# Altium schematic symbol library 原理图库.SchLib: 27 symbols
Pins are listed as number, name and electrical type; pins without a type are passive.

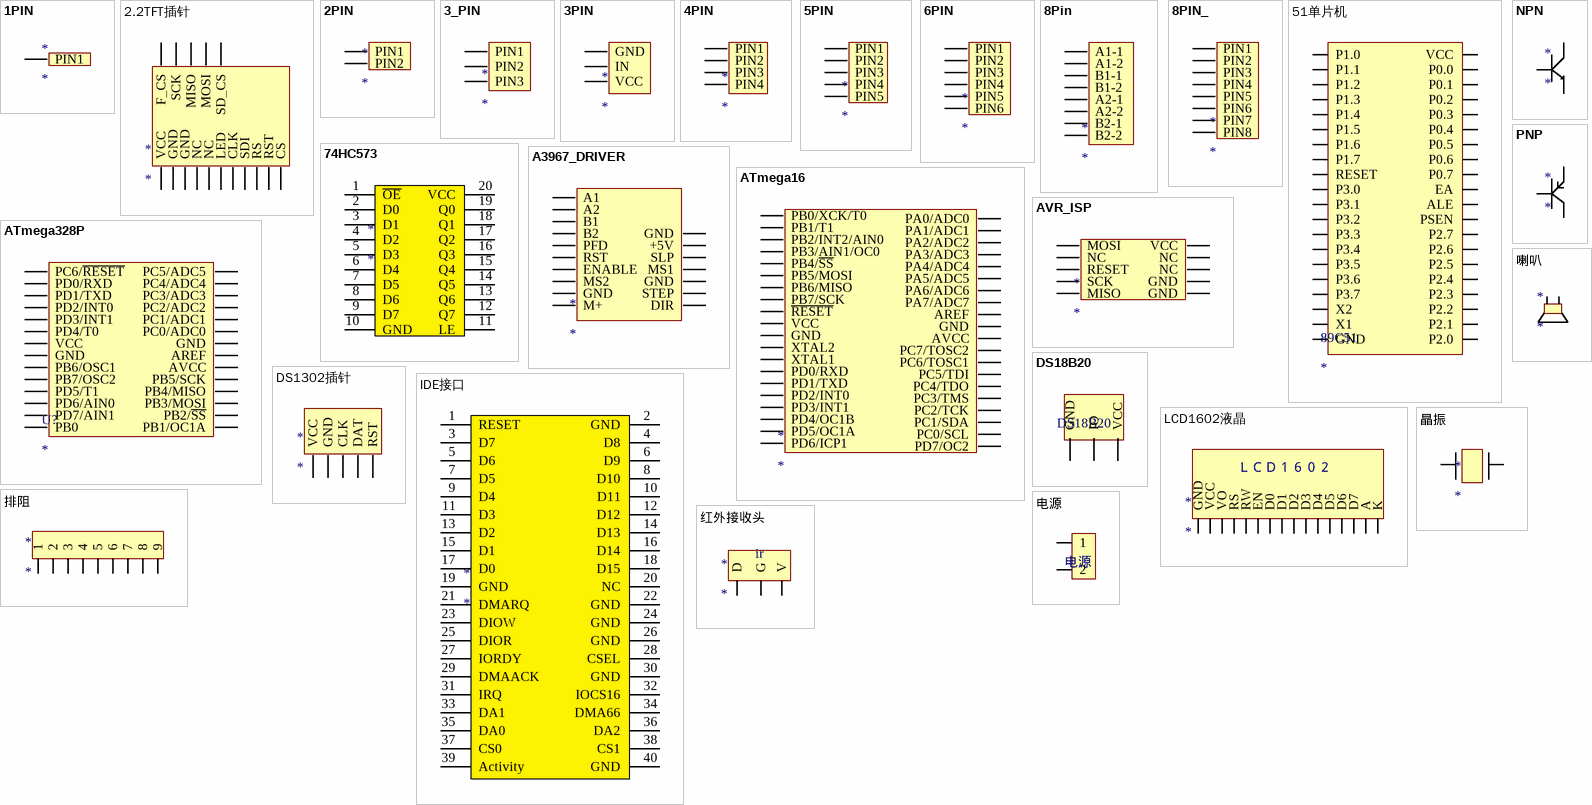
[diagram p0: symbols 1PIN to 红外接收头]

## 1PIN
designator *
pins: 1 PIN1

## 2.2TFT插针
designator *
pins: 1 VCC, 2 GND, 3 GND, 4 NC, 5 NC, 6 LED, 7 CLK, 8 SDI, 9 RS, 10 RST, 11 CS, 12 F_CS, 13 SCK, 14 MISO, 15 MOSI, 16 SD_CS

## 2PIN
designator *
pins: 1 PIN1, 2 PIN2

## 3_PIN
designator *
pins: 1 PIN1, 2 PIN2, 3 PIN3

## 3PIN
designator *
pins: 1 GND, 2 IN, 3 VCC

## 4PIN
designator *
pins: 1 PIN1, 2 PIN2, 3 PIN3, 4 PIN4

## 5PIN
designator *
pins: 1 PIN1, 2 PIN2, 3 PIN3, 4 PIN4, 5 PIN5

## 6PIN
designator *
pins: 1 PIN1, 2 PIN2, 3 PIN3, 4 PIN4, 5 PIN5, 6 PIN6

## 8Pin
designator *
pins: 1 A1-1, 2 A1-2, 3 B1-1, 4 B1-2, 5 A2-1, 6 A2-2, 7 B2-1, 8 B2-2

## 8PIN_
designator *
pins: 1 PIN1, 2 PIN2, 3 PIN3, 4 PIN4, 5 PIN5, 6 PIN6, 7 PIN7, 8 PIN8

## 51单片机
designator 89C51
pins: 1 P1.0, 2 P1.1, 3 P1.2, 4 P1.3, 5 P1.4, 6 P1.5, 7 P1.6, 8 P1.7, 9 RESET, 10 P3.0, 11 P3.1, 12 P3.2, 13 P3.3, 14 P3.4, 15 P3.5, 16 P3.6, 17 P3.7, 18 X2, 19 X1, 20 GND, 21 P2.0, 22 P2.1, 23 P2.2, 24 P2.3, 25 P2.4, 26 P2.5, 27 P2.6, 28 P2.7, 29 PSEN, 30 ALE, 31 EA, 32 P0.7, 33 P0.6, 34 P0.5, 35 P0.4, 36 P0.3, 37 P0.2, 38 P0.1, 39 P0.0, 40 VCC

## 74HC573
designator *
pins: 1 ~{OE}, 2 D0, 3 D1, 4 D2, 5 D3, 6 D4, 7 D5, 8 D6, 9 D7, 10 GND, 11 LE, 12 Q7, 13 Q6, 14 Q5, 15 Q4, 16 Q3, 17 Q2, 18 Q1, 19 Q0, 20 VCC

## A3967_DRIVER
designator *
pins: 1 A1, 2 A2, 3 B1, 4 B2, 5 PFD, 6 RST, 7 ENABLE, 8 MS2, 9 GND, 10 M+, 11 DIR, 12 STEP, 13 GND, 14 MS1, 15 SLP, 16 +5V, 17 GND

## ATmega16
designator *
pins: 1 PB0/XCK/T0, 2 PB1/T1, 3 PB2/INT2/AIN0, 4 PB3/AIN1/OC0, 5 PB4/~{SS}, 6 PB5/MOSI, 7 PB6/MISO, 8 PB7/SCK, 9 ~{RESET}, 10 VCC, 11 GND, 12 XTAL2, 13 XTAL1, 14 PD0/RXD, 15 PD1/TXD, 16 PD2/INT0, 17 PD3/INT1, 18 PD4/OC1B, 19 PD5/OC1A, 20 PD6/ICP1, 21 PD7/OC2, 22 PC0/SCL, 23 PC1/SDA, 24 PC2/TCK, 25 PC3/TMS, 26 PC4/TDO, 27 PC5/TDI, 28 PC6/TOSC1, 29 PC7/TOSC2, 30 AVCC, 31 GND, 32 AREF, 33 PA7/ADC7, 34 PA6/ADC6, 35 PA5/ADC5, 36 PA4/ADC4, 37 PA3/ADC3, 38 PA2/ADC2, 39 PA1/ADC1, 40 PA0/ADC0

## ATmega328P
designator U?
pins: 1 PC6/~{RESET}, 2 PD0/RXD, 3 PD1/TXD, 4 PD2/INT0, 5 PD3/INT1, 6 PD4/T0, 7 VCC, 8 GND, 9 PB6/OSC1, 10 PB7/OSC2, 11 PD5/T1, 12 PD6/AIN0, 13 PD7/AIN1, 14 PB0, 15 PB1/OC1A, 16 PB2/~{SS}, 17 PB3/MOSI, 18 PB4/MISO, 19 PB5/SCK, 20 AVCC, 21 AREF, 22 GND, 23 PC0/ADC0, 24 PC1/ADC1, 25 PC2/ADC2, 26 PC3/ADC3, 27 PC4/ADC4, 28 PC5/ADC5

## AVR_ISP
designator *
pins: 1 MOSI, 2 VCC, 3 NC, 4 NC, 5 RESET, 6 NC, 7 SCK, 8 GND, 9 MISO, 10 GND

## DS18B20
designator DS18B20  (value not drawn)
pins: 1 GND, 2 IO, 3 VCC

## DS1302插针
designator *
pins: 1 VCC, 2 GND, 3 CLK, 4 DAT, 5 RST

## IDE接口
designator *
pins: 1 RESET, 2 GND, 3 D7, 4 D8, 5 D6, 6 D9, 7 D5, 8 D10, 9 D4, 10 D11, 11 D3, 12 D12, 13 D2, 14 D13, 15 D1, 16 D14, 17 D0, 18 D15, 19 GND, 20 NC, 21 DMARQ, 22 GND, 23 DIOW, 24 GND, 25 DIOR, 26 GND, 27 IORDY, 28 CSEL, 29 DMAACK, 30 GND, 31 IRQ, 32 IOCS16, 33 DA1, 34 DMA66, 35 DA0, 36 DA2, 37 CS0, 38 CS1, 39 Activity, 40 GND

## LCD1602液晶
designator *
pins: 1 GND, 2 VCC, 3 VO, 4 RS, 5 RW, 6 EN, 7 D0, 8 D1, 9 D2, 10 D3, 11 D4, 12 D5, 13 D6, 14 D7, 15 A, 16 K
text: ＬＣＤ１６０２

## NPN
designator *
pins: 1, 2, 3

## PNP
designator *
pins: 1, 2, 3

## 喇叭
designator *
pins: 1, 2

## 排阻
designator *
pins: 1, 2, 3, 4, 5, 6, 7, 8, 9

## 晶振
designator *
pins: 1, 2

## 电源
designator 电源  (value not drawn)
pins: 1, 2

## 红外接收头
designator *
pins: 1 D, 2 G, 3 V
text: ir